# Altium schematic symbol library ProjectAir_SchLib.SchLib: 11 symbols
Pins are listed as number, name and electrical type; pins without a type are passive.

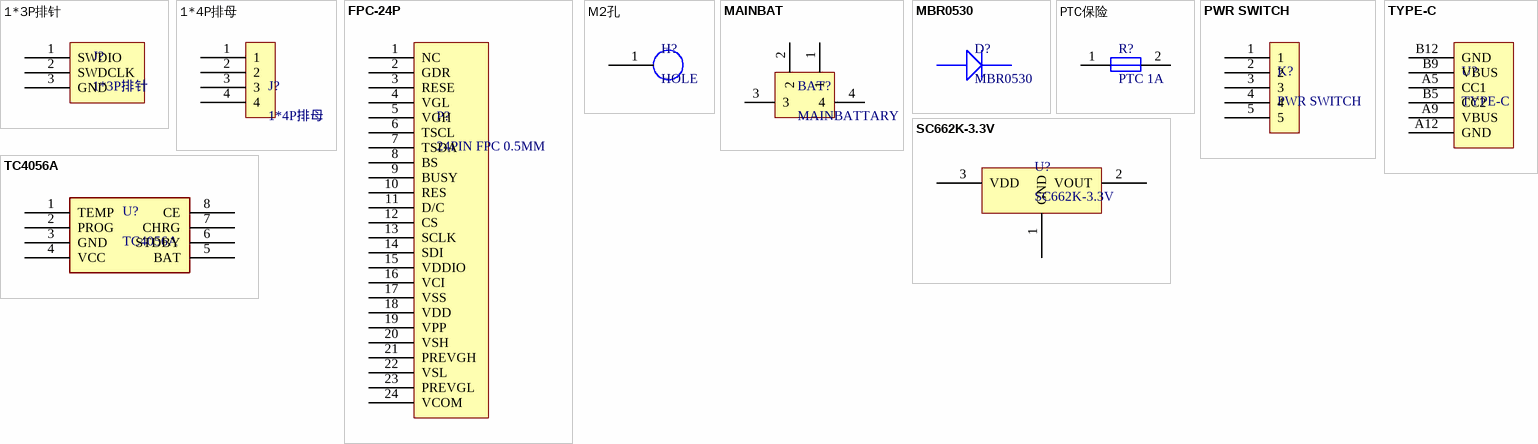
[diagram p0: symbols 1*3P排针 to TYPE-C]

## 1*3P排针
designator J?
pins: 1 SWDIO, 2 SWDCLK, 3 GND

## 1*4P排母
designator J?
排母
pins: 1, 2, 3, 4

## FPC-24P
designator P?, comment 24PIN FPC 0.5MM
FPC-24P
pins: 1 NC, 2 GDR, 3 RESE, 4 VGL, 5 VGH, 6 TSCL, 7 TSDA, 8 BS, 9 BUSY, 10 RES, 11 D/C, 12 CS, 13 SCLK, 14 SDI, 15 VDDIO, 16 VCI, 17 VSS, 18 VDD, 19 VPP, 20 VSH, 21 PREVGH, 22 VSL, 23 PREVGL, 24 VCOM

## M2孔
designator H?, comment HOLE
M2孔
footprint M2孔
pins: 1 GND

## MAINBAT
designator BAT?, comment MAINBATTARY
footprint MAINBAT (MAINBATTARY)
pins: 1, 2, 3, 4

## MBR0530
designator D?
pins: 1, 2

## PTC保险
designator R?, comment PTC 1A
footprint PTC
pins: 1, 2

## PWR SWITCH
designator K?
pins: 1, 2, 3, 4, 5

## SC662K-3.3V
designator U?
SCK662K-3.3V
pins: 1 GND, 2 VOUT, 3 VDD

## TC4056A
designator U?
充电芯片
footprint ESOP-8 (TC4056C)
pins: 1 TEMP, 2 PROG, 3 GND, 4 VCC, 5 BAT, 6 STDBY, 7 CHRG, 8 CE

## TYPE-C
designator U?
footprint TYPE-C (TYPE-C 6P)
pins: A5 CC1, A9 VBUS, A12 GND, B5 CC2, B9 VBUS, B12 GND